# Altium footprint library Package_DIP.PcbLib: 281 footprints (part 16 of 18)
Each footprint in its own frame and in the unit in brackets; x right, y up, seen from the top. Pads: shape width x height; smd on the part's side, far side on the other; paste and mask are expansions set on the pad; w line width, h text height; cw(c..) or ccw(c..) is an arc to the next point about the centre after c.
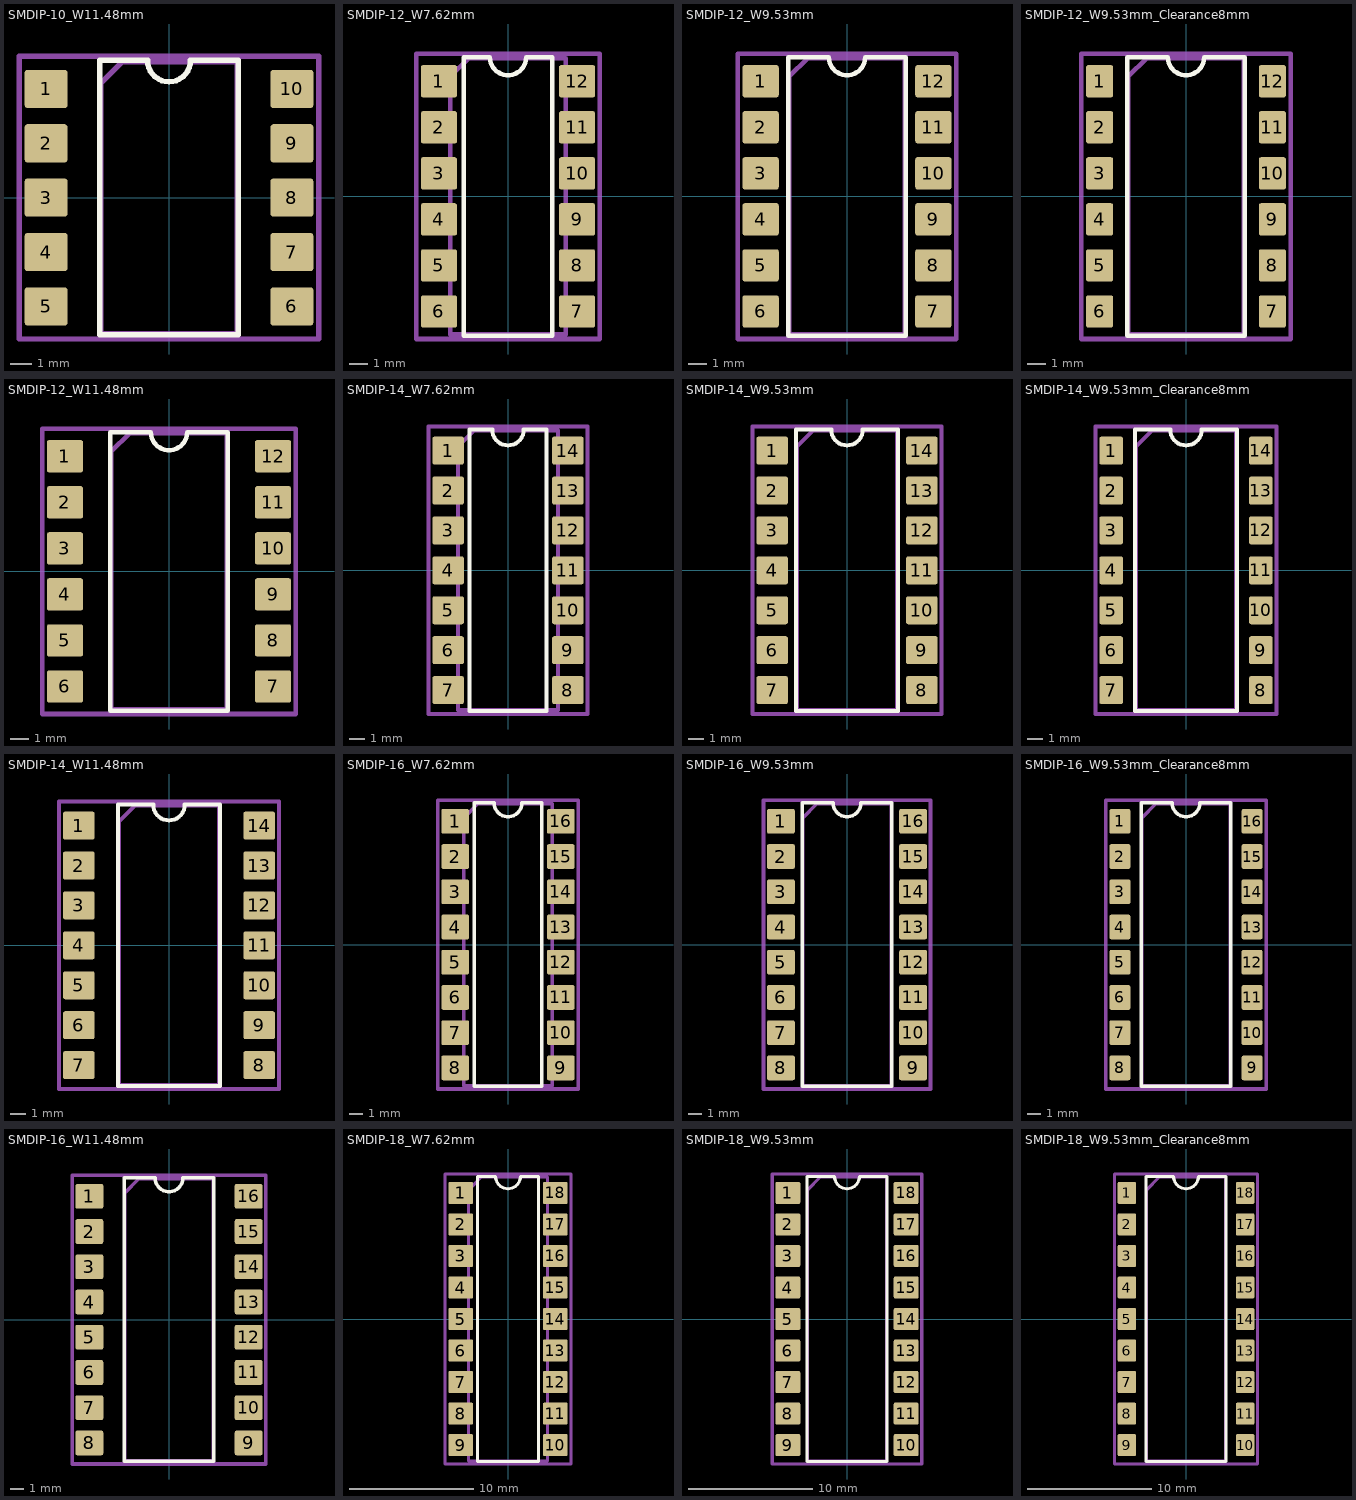
[diagram p15: the footprints below, top view; thin cyan lines are the x and y axes]

## SMDIP-10_W11.48mm [mm]
pads (10):
  rrect14% 2x1.78 smd: 1(-5.74,5.08) 2(-5.74,2.54) 3(-5.74,0) 4(-5.74,-2.54) 5(-5.74,-5.08) 6(5.74,-5.08) 7(5.74,-2.54) 8(5.74,0) 9(5.74,2.54) 10(5.74,5.08)
F.SilkS:
  lines w0.254: -3.235,-6.41 3.235,-6.41 3.235,6.41 1,6.41 cw(c0,6.41) -1,6.41 -3.235,6.41 -3.235,-6.41
Top Assembly:
  lines w0.254: -3.175,-6.35 3.175,-6.35 3.175,6.35 -2.175,6.35 -3.175,5.35 -3.175,-6.35
  text "'.Designator'" at 0.84,-4.047 h1
Top Courtyard:
  lines w0.254: -6.99,-6.6 6.99,-6.6 6.99,6.6 -6.99,6.6 -6.99,-6.6
Top Designator:
  text ".Designator" at -7.618,-0.508 h1.52

## SMDIP-12_W7.62mm [mm]
pads (12):
  rrect14% 2x1.78 smd: 1(-3.81,6.35) 2(-3.81,3.81) 3(-3.81,1.27) 4(-3.81,-1.27) 5(-3.81,-3.81) 6(-3.81,-6.35) 7(3.81,-6.35) 8(3.81,-3.81) 9(3.81,-1.27) 10(3.81,1.27) 11(3.81,3.81) 12(3.81,6.35)
F.SilkS:
  lines w0.254: -2.45,-7.68 2.45,-7.68 2.45,7.68 1,7.68 cw(c0,7.68) -1,7.68 -2.45,7.68 -2.45,-7.68
Top Assembly:
  lines w0.254: -3.175,-7.62 3.175,-7.62 3.175,7.62 -2.175,7.62 -3.175,6.62 -3.175,-7.62
  text "'.Designator'" at 0.84,-4.047 h1
Top Courtyard:
  lines w0.254: -5.07,-7.87 5.07,-7.87 5.07,7.87 -5.07,7.87 -5.07,-7.87
Top Designator:
  text ".Designator" at -7.618,-0.508 h1.52

## SMDIP-12_W9.53mm [mm]
pads (12):
  rrect14% 2x1.78 smd: 1(-4.765,6.35) 2(-4.765,3.81) 3(-4.765,1.27) 4(-4.765,-1.27) 5(-4.765,-3.81) 6(-4.765,-6.35) 7(4.765,-6.35) 8(4.765,-3.81) 9(4.765,-1.27) 10(4.765,1.27) 11(4.765,3.81) 12(4.765,6.35)
F.SilkS:
  lines w0.254: -3.235,-7.68 3.235,-7.68 3.235,7.68 1,7.68 cw(c0,7.68) -1,7.68 -3.235,7.68 -3.235,-7.68
Top Assembly:
  lines w0.254: -3.175,-7.62 3.175,-7.62 3.175,7.62 -2.175,7.62 -3.175,6.62 -3.175,-7.62
  text "'.Designator'" at 0.84,-4.047 h1
Top Courtyard:
  lines w0.254: -6.02,-7.87 6.02,-7.87 6.02,7.87 -6.02,7.87 -6.02,-7.87
Top Designator:
  text ".Designator" at -7.618,-0.508 h1.52

## SMDIP-12_W9.53mm_Clearance8mm [mm]
pads (12):
  rrect17% 1.5x1.78 smd: 1(-4.765,6.35) 2(-4.765,3.81) 3(-4.765,1.27) 4(-4.765,-1.27) 5(-4.765,-3.81) 6(-4.765,-6.35) 7(4.765,-6.35) 8(4.765,-3.81) 9(4.765,-1.27) 10(4.765,1.27) 11(4.765,3.81) 12(4.765,6.35)
F.SilkS:
  lines w0.254: -3.235,-7.68 3.235,-7.68 3.235,7.68 1,7.68 cw(c0,7.68) -1,7.68 -3.235,7.68 -3.235,-7.68
Top Assembly:
  lines w0.254: -3.175,-7.62 3.175,-7.62 3.175,7.62 -2.175,7.62 -3.175,6.62 -3.175,-7.62
  text "'.Designator'" at 0.84,-4.047 h1
Top Courtyard:
  lines w0.254: -5.77,-7.87 5.77,-7.87 5.77,7.87 -5.77,7.87 -5.77,-7.87
Top Designator:
  text ".Designator" at -7.618,-0.508 h1.52

## SMDIP-12_W11.48mm [mm]
pads (12):
  rrect14% 2x1.78 smd: 1(-5.74,6.35) 2(-5.74,3.81) 3(-5.74,1.27) 4(-5.74,-1.27) 5(-5.74,-3.81) 6(-5.74,-6.35) 7(5.74,-6.35) 8(5.74,-3.81) 9(5.74,-1.27) 10(5.74,1.27) 11(5.74,3.81) 12(5.74,6.35)
F.SilkS:
  lines w0.254: -3.235,-7.68 3.235,-7.68 3.235,7.68 1,7.68 cw(c0,7.68) -1,7.68 -3.235,7.68 -3.235,-7.68
Top Assembly:
  lines w0.254: -3.175,-7.62 3.175,-7.62 3.175,7.62 -2.175,7.62 -3.175,6.62 -3.175,-7.62
  text "'.Designator'" at 0.84,-4.047 h1
Top Courtyard:
  lines w0.254: -6.99,-7.87 6.99,-7.87 6.99,7.87 -6.99,7.87 -6.99,-7.87
Top Designator:
  text ".Designator" at -7.618,-0.508 h1.52

## SMDIP-14_W7.62mm [mm]
pads (14):
  rrect14% 2x1.78 smd: 1(-3.81,7.62) 2(-3.81,5.08) 3(-3.81,2.54) 4(-3.81,0) 5(-3.81,-2.54) 6(-3.81,-5.08) 7(-3.81,-7.62) 8(3.81,-7.62) 9(3.81,-5.08) 10(3.81,-2.54) 11(3.81,0) 12(3.81,2.54) 13(3.81,5.08) 14(3.81,7.62)
F.SilkS:
  lines w0.254: -2.45,-8.95 2.45,-8.95 2.45,8.95 1,8.95 cw(c0,8.95) -1,8.95 -2.45,8.95 -2.45,-8.95
Top Assembly:
  lines w0.254: -3.175,-8.89 3.175,-8.89 3.175,8.89 -2.175,8.89 -3.175,7.89 -3.175,-8.89
  text "'.Designator'" at 0.84,-4.047 h1
Top Courtyard:
  lines w0.254: -5.07,-9.14 5.07,-9.14 5.07,9.14 -5.07,9.14 -5.07,-9.14
Top Designator:
  text ".Designator" at -7.618,-0.508 h1.52

## SMDIP-14_W9.53mm [mm]
pads (14):
  rrect14% 2x1.78 smd: 1(-4.765,7.62) 2(-4.765,5.08) 3(-4.765,2.54) 4(-4.765,0) 5(-4.765,-2.54) 6(-4.765,-5.08) 7(-4.765,-7.62) 8(4.765,-7.62) 9(4.765,-5.08) 10(4.765,-2.54) 11(4.765,0) 12(4.765,2.54) 13(4.765,5.08) 14(4.765,7.62)
F.SilkS:
  lines w0.254: -3.235,-8.95 3.235,-8.95 3.235,8.95 1,8.95 cw(c0,8.95) -1,8.95 -3.235,8.95 -3.235,-8.95
Top Assembly:
  lines w0.254: -3.175,-8.89 3.175,-8.89 3.175,8.89 -2.175,8.89 -3.175,7.89 -3.175,-8.89
  text "'.Designator'" at 0.84,-4.047 h1
Top Courtyard:
  lines w0.254: -6.02,-9.14 6.02,-9.14 6.02,9.14 -6.02,9.14 -6.02,-9.14
Top Designator:
  text ".Designator" at -7.618,-0.508 h1.52

## SMDIP-14_W9.53mm_Clearance8mm [mm]
pads (14):
  rrect17% 1.5x1.78 smd: 1(-4.765,7.62) 2(-4.765,5.08) 3(-4.765,2.54) 4(-4.765,0) 5(-4.765,-2.54) 6(-4.765,-5.08) 7(-4.765,-7.62) 8(4.765,-7.62) 9(4.765,-5.08) 10(4.765,-2.54) 11(4.765,0) 12(4.765,2.54) 13(4.765,5.08) 14(4.765,7.62)
F.SilkS:
  lines w0.254: -3.235,-8.95 3.235,-8.95 3.235,8.95 1,8.95 cw(c0,8.95) -1,8.95 -3.235,8.95 -3.235,-8.95
Top Assembly:
  lines w0.254: -3.175,-8.89 3.175,-8.89 3.175,8.89 -2.175,8.89 -3.175,7.89 -3.175,-8.89
  text "'.Designator'" at 0.84,-4.047 h1
Top Courtyard:
  lines w0.254: -5.77,-9.14 5.77,-9.14 5.77,9.14 -5.77,9.14 -5.77,-9.14
Top Designator:
  text ".Designator" at -7.618,-0.508 h1.52

## SMDIP-14_W11.48mm [mm]
pads (14):
  rrect14% 2x1.78 smd: 1(-5.74,7.62) 2(-5.74,5.08) 3(-5.74,2.54) 4(-5.74,0) 5(-5.74,-2.54) 6(-5.74,-5.08) 7(-5.74,-7.62) 8(5.74,-7.62) 9(5.74,-5.08) 10(5.74,-2.54) 11(5.74,0) 12(5.74,2.54) 13(5.74,5.08) 14(5.74,7.62)
F.SilkS:
  lines w0.254: -3.235,-8.95 3.235,-8.95 3.235,8.95 1,8.95 cw(c0,8.95) -1,8.95 -3.235,8.95 -3.235,-8.95
Top Assembly:
  lines w0.254: -3.175,-8.89 3.175,-8.89 3.175,8.89 -2.175,8.89 -3.175,7.89 -3.175,-8.89
  text "'.Designator'" at 0.84,-4.047 h1
Top Courtyard:
  lines w0.254: -6.99,-9.14 6.99,-9.14 6.99,9.14 -6.99,9.14 -6.99,-9.14
Top Designator:
  text ".Designator" at -7.618,-0.508 h1.52

## SMDIP-16_W7.62mm [mm]
pads (16):
  rrect14% 2x1.78 smd: 1(-3.81,8.89) 2(-3.81,6.35) 3(-3.81,3.81) 4(-3.81,1.27) 5(-3.81,-1.27) 6(-3.81,-3.81) 7(-3.81,-6.35) 8(-3.81,-8.89) 9(3.81,-8.89) 10(3.81,-6.35) 11(3.81,-3.81) 12(3.81,-1.27) 13(3.81,1.27) 14(3.81,3.81) 15(3.81,6.35) 16(3.81,8.89)
F.SilkS:
  lines w0.254: -2.45,-10.22 2.45,-10.22 2.45,10.22 1,10.22 cw(c0,10.22) -1,10.22 -2.45,10.22 -2.45,-10.22
Top Assembly:
  lines w0.254: -3.175,-10.16 3.175,-10.16 3.175,10.16 -2.175,10.16 -3.175,9.16 -3.175,-10.16
  text "'.Designator'" at 0.84,-4.047 h1
Top Courtyard:
  lines w0.254: -5.07,-10.41 5.07,-10.41 5.07,10.41 -5.07,10.41 -5.07,-10.41
Top Designator:
  text ".Designator" at -7.618,-0.508 h1.52

## SMDIP-16_W9.53mm [mm]
pads (16):
  rrect14% 2x1.78 smd: 1(-4.765,8.89) 2(-4.765,6.35) 3(-4.765,3.81) 4(-4.765,1.27) 5(-4.765,-1.27) 6(-4.765,-3.81) 7(-4.765,-6.35) 8(-4.765,-8.89) 9(4.765,-8.89) 10(4.765,-6.35) 11(4.765,-3.81) 12(4.765,-1.27) 13(4.765,1.27) 14(4.765,3.81) 15(4.765,6.35) 16(4.765,8.89)
F.SilkS:
  lines w0.254: -3.235,-10.22 3.235,-10.22 3.235,10.22 1,10.22 cw(c0,10.22) -1,10.22 -3.235,10.22 -3.235,-10.22
Top Assembly:
  lines w0.254: -3.175,-10.16 3.175,-10.16 3.175,10.16 -2.175,10.16 -3.175,9.16 -3.175,-10.16
  text "'.Designator'" at 0.84,-4.047 h1
Top Courtyard:
  lines w0.254: -6.02,-10.41 6.02,-10.41 6.02,10.41 -6.02,10.41 -6.02,-10.41
Top Designator:
  text ".Designator" at -7.618,-0.508 h1.52

## SMDIP-16_W9.53mm_Clearance8mm [mm]
pads (16):
  rrect17% 1.5x1.78 smd: 1(-4.765,8.89) 2(-4.765,6.35) 3(-4.765,3.81) 4(-4.765,1.27) 5(-4.765,-1.27) 6(-4.765,-3.81) 7(-4.765,-6.35) 8(-4.765,-8.89) 9(4.765,-8.89) 10(4.765,-6.35) 11(4.765,-3.81) 12(4.765,-1.27) 13(4.765,1.27) 14(4.765,3.81) 15(4.765,6.35) 16(4.765,8.89)
F.SilkS:
  lines w0.254: -3.235,-10.22 3.235,-10.22 3.235,10.22 1,10.22 cw(c0,10.22) -1,10.22 -3.235,10.22 -3.235,-10.22
Top Assembly:
  lines w0.254: -3.175,-10.16 3.175,-10.16 3.175,10.16 -2.175,10.16 -3.175,9.16 -3.175,-10.16
  text "'.Designator'" at 0.84,-4.047 h1
Top Courtyard:
  lines w0.254: -5.77,-10.41 5.77,-10.41 5.77,10.41 -5.77,10.41 -5.77,-10.41
Top Designator:
  text ".Designator" at -7.618,-0.508 h1.52

## SMDIP-16_W11.48mm [mm]
pads (16):
  rrect14% 2x1.78 smd: 1(-5.74,8.89) 2(-5.74,6.35) 3(-5.74,3.81) 4(-5.74,1.27) 5(-5.74,-1.27) 6(-5.74,-3.81) 7(-5.74,-6.35) 8(-5.74,-8.89) 9(5.74,-8.89) 10(5.74,-6.35) 11(5.74,-3.81) 12(5.74,-1.27) 13(5.74,1.27) 14(5.74,3.81) 15(5.74,6.35) 16(5.74,8.89)
F.SilkS:
  lines w0.254: -3.235,-10.22 3.235,-10.22 3.235,10.22 1,10.22 cw(c0,10.22) -1,10.22 -3.235,10.22 -3.235,-10.22
Top Assembly:
  lines w0.254: -3.175,-10.16 3.175,-10.16 3.175,10.16 -2.175,10.16 -3.175,9.16 -3.175,-10.16
  text "'.Designator'" at 0.84,-4.047 h1
Top Courtyard:
  lines w0.254: -6.99,-10.41 6.99,-10.41 6.99,10.41 -6.99,10.41 -6.99,-10.41
Top Designator:
  text ".Designator" at -7.618,-0.508 h1.52

## SMDIP-18_W7.62mm [mm]
pads (18):
  rrect14% 2x1.78 smd: 1(-3.81,10.16) 2(-3.81,7.62) 3(-3.81,5.08) 4(-3.81,2.54) 5(-3.81,0) 6(-3.81,-2.54) 7(-3.81,-5.08) 8(-3.81,-7.62) 9(-3.81,-10.16) 10(3.81,-10.16) 11(3.81,-7.62) 12(3.81,-5.08) 13(3.81,-2.54) 14(3.81,0) 15(3.81,2.54) 16(3.81,5.08) 17(3.81,7.62) 18(3.81,10.16)
F.SilkS:
  lines w0.254: -2.45,-11.49 2.45,-11.49 2.45,11.49 1,11.49 cw(c0,11.49) -1,11.49 -2.45,11.49 -2.45,-11.49
Top Assembly:
  lines w0.254: -3.175,-11.43 3.175,-11.43 3.175,11.43 -2.175,11.43 -3.175,10.43 -3.175,-11.43
  text "'.Designator'" at 0.84,-4.047 h1
Top Courtyard:
  lines w0.254: -5.07,-11.68 5.07,-11.68 5.07,11.68 -5.07,11.68 -5.07,-11.68
Top Designator:
  text ".Designator" at -7.618,-0.508 h1.52

## SMDIP-18_W9.53mm [mm]
pads (18):
  rrect14% 2x1.78 smd: 1(-4.765,10.16) 2(-4.765,7.62) 3(-4.765,5.08) 4(-4.765,2.54) 5(-4.765,0) 6(-4.765,-2.54) 7(-4.765,-5.08) 8(-4.765,-7.62) 9(-4.765,-10.16) 10(4.765,-10.16) 11(4.765,-7.62) 12(4.765,-5.08) 13(4.765,-2.54) 14(4.765,0) 15(4.765,2.54) 16(4.765,5.08) 17(4.765,7.62) 18(4.765,10.16)
F.SilkS:
  lines w0.254: -3.235,-11.49 3.235,-11.49 3.235,11.49 1,11.49 cw(c0,11.49) -1,11.49 -3.235,11.49 -3.235,-11.49
Top Assembly:
  lines w0.254: -3.175,-11.43 3.175,-11.43 3.175,11.43 -2.175,11.43 -3.175,10.43 -3.175,-11.43
  text "'.Designator'" at 0.84,-4.047 h1
Top Courtyard:
  lines w0.254: -6.02,-11.68 6.02,-11.68 6.02,11.68 -6.02,11.68 -6.02,-11.68
Top Designator:
  text ".Designator" at -7.618,-0.508 h1.52

## SMDIP-18_W9.53mm_Clearance8mm [mm]
pads (18):
  rrect17% 1.5x1.78 smd: 1(-4.765,10.16) 2(-4.765,7.62) 3(-4.765,5.08) 4(-4.765,2.54) 5(-4.765,0) 6(-4.765,-2.54) 7(-4.765,-5.08) 8(-4.765,-7.62) 9(-4.765,-10.16) 10(4.765,-10.16) 11(4.765,-7.62) 12(4.765,-5.08) 13(4.765,-2.54) 14(4.765,0) 15(4.765,2.54) 16(4.765,5.08) 17(4.765,7.62) 18(4.765,10.16)
F.SilkS:
  lines w0.254: -3.235,-11.49 3.235,-11.49 3.235,11.49 1,11.49 cw(c0,11.49) -1,11.49 -3.235,11.49 -3.235,-11.49
Top Assembly:
  lines w0.254: -3.175,-11.43 3.175,-11.43 3.175,11.43 -2.175,11.43 -3.175,10.43 -3.175,-11.43
  text "'.Designator'" at 0.84,-4.047 h1
Top Courtyard:
  lines w0.254: -5.77,-11.68 5.77,-11.68 5.77,11.68 -5.77,11.68 -5.77,-11.68
Top Designator:
  text ".Designator" at -7.618,-0.508 h1.52